# EAGLE library part ADS1219 (library EYR_CircuitosIntegrados)
ADS1219 4-Channel, 1-kSPS, 24-Bit, Delta-Sigma ADC With I 2C Interface https://www.ti.com/lit/ds/symlink/ads1219.pdf?ts=1593130760143
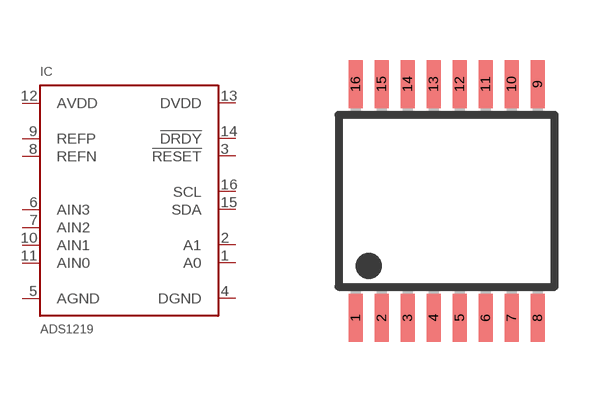
[diagram p11: symbol with the pads of TSSOP16; footprint TSSOP16]

Designator prefix IC

## ADS1219IPWR  [TSSOP16]
1  A0  in
2  A1  in
3  !RESET  in
4  DGND  pwr
5  AGND  pwr
6  AIN3  in
7  AIN2  in
8  REFN
9  REFP
10  AIN1  in
11  AIN0  in
12  AVDD  pwr
13  DVDD  pwr
14  !DRDY  out
15  SDA
16  SCL  in

## Footprint TSSOP16 (pad centres in mm)
PW (R-PDSO-G8) Source: http://focus.ti.com/lit/ds/symlink/ads1271.pdf
smd 0.35 x 1.2: 1 -2.275,-2.925; 2 -1.625,-2.925; 3 -0.975,-2.925; 4 -0.325,-2.925; 5 0.325,-2.925; 6 0.975,-2.925; 7 1.625,-2.925; 8 2.275,-2.925; 9 2.275,2.925; 10 1.625,2.925; 11 0.975,2.925; 12 0.325,2.925; 13 -0.325,2.925; 14 -0.975,2.925; 15 -1.625,2.925; 16 -2.275,2.925